# Altium footprint library SMT DC Barrel.PcbLib: 1 footprints
Each footprint in its own frame and in the unit in brackets; x right, y up, seen from the top. Pads: shape width x height; smd on the part's side, far side on the other; paste and mask are expansions set on the pad; w line width, h text height; cw(c..) or ccw(c..) is an arc to the next point about the centre after c.
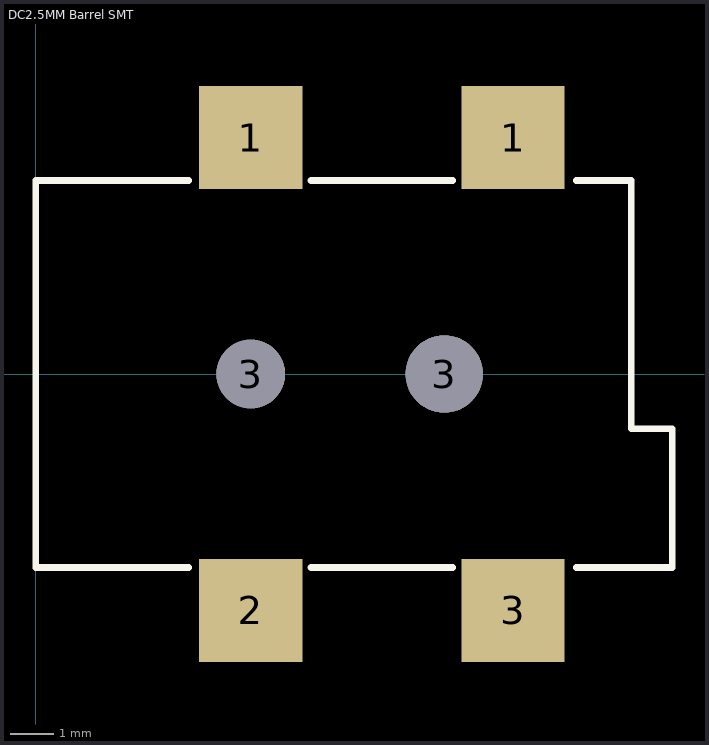
[diagram p0: the footprint, top view; thin cyan lines are the x and y axes]

## DC2.5MM Barrel SMT [mm] "SMT 2.5MM Barrel SMT Connector (Kobicon 163-2641-E)"
pads (6):
  rect 2.4x2.4 smd: 1(5,5.5) 1(11.1,5.5) 2(5,-5.5) 3(11.1,-5.5)
  round 1.6 hole 1.6 unplated paste+0: 3(5,0)
  round 1.8 hole 1.8 unplated: 3(9.5,0)
Top Overlay:
  lines w0.152: 3.556,-4.5 0,-4.5 0,4.5 3.556,4.5 ; 6.4,-4.5 9.7,-4.5 ; 6.4,4.5 9.7,4.5 ; 12.573,-4.5 14.8,-4.5 14.8,-1.27 13.843,-1.27 13.843,4.5 12.573,4.5